# Altium schematic symbol library LM31117-3.3.SchLib: 1 symbol
Pins are listed as number, name and electrical type; pins without a type are passive.

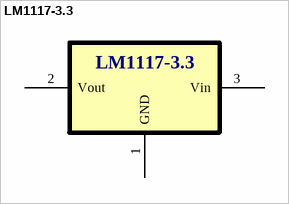
[diagram p0: symbol LM1117-3.3]

## LM1117-3.3
designator *  (value not drawn)
pins: 1 GND, 2 Vout, 3 Vin